# Altium footprint library Footprints.PcbLib: 146 footprints (part 8 of 10)
Each footprint in its own frame and in the unit in brackets; x right, y up, seen from the top. Pads: shape width x height; smd on the part's side, far side on the other; paste and mask are expansions set on the pad; w line width, h text height; cw(c..) or ccw(c..) is an arc to the next point about the centre after c.
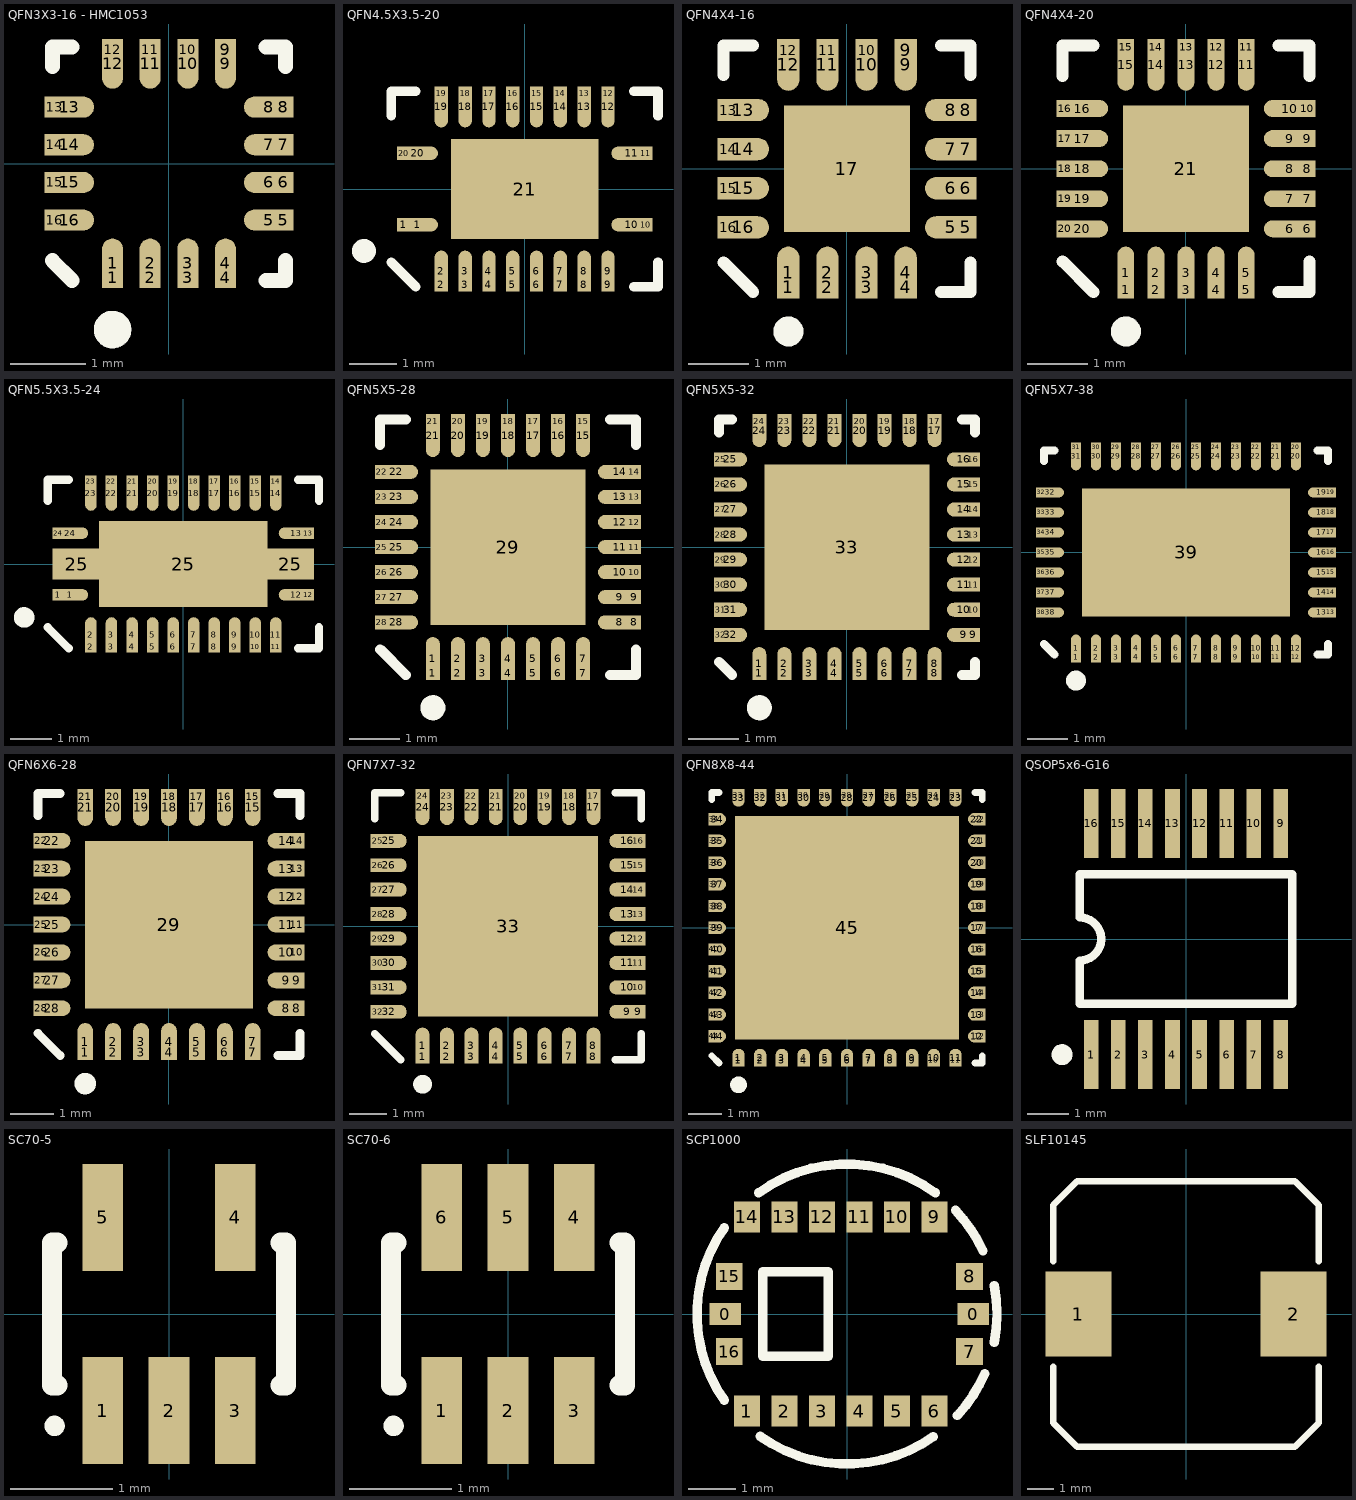
[diagram p7: the footprints below, top view; thin cyan lines are the x and y axes]

## QFN3X3-16 - HMC1053 [mm] "Quad Flat No Lead, Plastic; 16 Terminals; Body 3 x 3 mm; Pitch 0.5 mm"
height 0.8
pads (32):
  rect 0.28x0.28 smd: 1(-0.75,-1.515) 2(-0.25,-1.515) 3(0.25,-1.515) 4(0.75,-1.515) 5(1.515,-0.75) 6(1.515,-0.25) 7(1.515,0.25) 8(1.515,0.75) 9(0.75,1.515) 10(0.25,1.515) 11(-0.25,1.515) 12(-0.75,1.515) 13(-1.515,0.75) 14(-1.515,0.25) 15(-1.515,-0.25) 16(-1.515,-0.75)
  oval 0.28x0.66 smd: 1(-0.75,-1.325) 2(-0.25,-1.325) 3(0.25,-1.325) 4(0.75,-1.325) 9(0.75,1.325) 10(0.25,1.325) 11(-0.25,1.325) 12(-0.75,1.325)
  oval 0.66x0.28 smd: 5(1.325,-0.75) 6(1.325,-0.25) 7(1.325,0.25) 8(1.325,0.75) 13(-1.325,0.75) 14(-1.325,0.25) 15(-1.325,-0.25) 16(-1.325,-0.75)
Top Overlay:
  circle w0.25: c-0.75,-2.205 r0.125
  lines w0.2: -1.55,-1.29 -1.29,-1.55 ; -1.55,1.29 -1.55,1.55 -1.29,1.55 ; 1.29,-1.55 1.55,-1.55 1.55,-1.29 ; 1.29,1.55 1.55,1.55 1.55,1.29

## QFN4.5X3.5-20 [mm] "Quad Flat No Lead; 20 Terminals; Body 4.5 x 3.5 mm; Pitch 0.5 mm"
height 1
pads (41):
  rect 0.28x0.28 smd: 1(-2.54,-0.75) 2(-1.75,-2.015) 3(-1.25,-2.015) 4(-0.75,-2.015) 5(-0.25,-2.015) 6(0.25,-2.015) 7(0.75,-2.015) 8(1.25,-2.015) 9(1.75,-2.015) 10(2.54,-0.75) 11(2.54,0.75) 12(1.75,2.015) 13(1.25,2.015) 14(0.75,2.015) 15(0.25,2.015) 16(-0.25,2.015) 17(-0.75,2.015) 18(-1.25,2.015) 19(-1.75,2.015) 20(-2.54,0.75)
  oval 0.86x0.28 smd: 1(-2.25,-0.75) 10(2.25,-0.75) 11(2.25,0.75) 20(-2.25,0.75)
  oval 0.28x0.86 smd: 2(-1.75,-1.725) 3(-1.25,-1.725) 4(-0.75,-1.725) 5(-0.25,-1.725) 6(0.25,-1.725) 7(0.75,-1.725) 8(1.25,-1.725) 9(1.75,-1.725) 12(1.75,1.725) 13(1.25,1.725) 14(0.75,1.725) 15(0.25,1.725) 16(-0.25,1.725) 17(-0.75,1.725) 18(-1.25,1.725) 19(-1.75,1.725)
  rect 3.1x2.1 smd: 21(0,0)
Top Overlay:
  circle w0.25: c-3.375,-1.3 r0.125
  lines w0.2: -2.8,-1.54 -2.29,-2.05 ; -2.8,1.54 -2.8,2.05 -2.29,2.05 ; 2.29,-2.05 2.8,-2.05 2.8,-1.54 ; 2.29,2.05 2.8,2.05 2.8,1.54

## QFN4X4-16 [mm] "Quad Flat No Lead, Plastic; 16 Terminals; Body 4 x 4 mm; Pitch 0.65 mm"
height 0.8
pads (33):
  rect 0.37x0.37 smd: 1(-0.975,-1.97) 2(-0.325,-1.97) 3(0.325,-1.97) 4(0.975,-1.97) 5(1.97,-0.975) 6(1.97,-0.325) 7(1.97,0.325) 8(1.97,0.975) 9(0.975,1.97) 10(0.325,1.97) 11(-0.325,1.97) 12(-0.975,1.97) 13(-1.97,0.975) 14(-1.97,0.325) 15(-1.97,-0.325) 16(-1.97,-0.975)
  oval 0.37x0.86 smd: 1(-0.975,-1.725) 2(-0.325,-1.725) 3(0.325,-1.725) 4(0.975,-1.725) 9(0.975,1.725) 10(0.325,1.725) 11(-0.325,1.725) 12(-0.975,1.725)
  oval 0.86x0.37 smd: 5(1.725,-0.975) 6(1.725,-0.325) 7(1.725,0.325) 8(1.725,0.975) 13(-1.725,0.975) 14(-1.725,0.325) 15(-1.725,-0.325) 16(-1.725,-0.975)
  rect 2.1x2.1 smd: 17(0,0)
Top Overlay:
  circle w0.25: c-0.975,-2.705 r0.125
  lines w0.2: -2.05,-1.56 -1.56,-2.05 ; -2.05,1.56 -2.05,2.05 -1.56,2.05 ; 1.56,-2.05 2.05,-2.05 2.05,-1.56 ; 1.56,2.05 2.05,2.05 2.05,1.56

## QFN4X4-20 [mm] "Quad Flat No Lead; 20 Terminals; Body 4 x 4 mm; Pitch 0.5 mm"
height 1
pads (41):
  rect 0.28x0.28 smd: 1(-1,-2.015) 2(-0.5,-2.015) 3(0,-2.015) 4(0.5,-2.015) 5(1,-2.015) 6(2.015,-1) 7(2.015,-0.5) 8(2.015,0) 9(2.015,0.5) 10(2.015,1) 11(1,2.015) 12(0.5,2.015) 13(0,2.015) 14(-0.5,2.015) 15(-1,2.015) 16(-2.015,1) 17(-2.015,0.5) 18(-2.015,0) 19(-2.015,-0.5) 20(-2.015,-1)
  oval 0.28x0.86 smd: 1(-1,-1.725) 2(-0.5,-1.725) 3(0,-1.725) 4(0.5,-1.725) 5(1,-1.725) 11(1,1.725) 12(0.5,1.725) 13(0,1.725) 14(-0.5,1.725) 15(-1,1.725)
  oval 0.86x0.28 smd: 6(1.725,-1) 7(1.725,-0.5) 8(1.725,0) 9(1.725,0.5) 10(1.725,1) 16(-1.725,1) 17(-1.725,0.5) 18(-1.725,0) 19(-1.725,-0.5) 20(-1.725,-1)
  rect 2.1x2.1 smd: 21(0,0)
Top Overlay:
  circle w0.25: c-1,-2.705 r0.125
  lines w0.2: -2.05,-1.54 -1.54,-2.05 ; -2.05,1.54 -2.05,2.05 -1.54,2.05 ; 1.54,-2.05 2.05,-2.05 2.05,-1.54 ; 1.54,2.05 2.05,2.05 2.05,1.54

## QFN5.5X3.5-24 [mm] "Quad Flat No Lead; 24 Terminals; Body 5.5 x 3.5 mm; Pitch 0.5 mm"
height 1
pads (51):
  rect 0.28x0.28 smd: 1(-3.04,-0.75) 2(-2.25,-2.015) 3(-1.75,-2.015) 4(-1.25,-2.015) 5(-0.75,-2.015) 6(-0.25,-2.015) 7(0.25,-2.015) 8(0.75,-2.015) 9(1.25,-2.015) 10(1.75,-2.015) 11(2.25,-2.015) 12(3.04,-0.75) 13(3.04,0.75) 14(2.25,2.015) 15(1.75,2.015) 16(1.25,2.015) 17(0.75,2.015) 18(0.25,2.015) 19(-0.25,2.015) 20(-0.75,2.015) 21(-1.25,2.015) 22(-1.75,2.015) 23(-2.25,2.015) 24(-3.04,0.75)
  oval 0.86x0.28 smd: 1(-2.75,-0.75) 12(2.75,-0.75) 13(2.75,0.75) 24(-2.75,0.75)
  oval 0.28x0.86 smd: 2(-2.25,-1.725) 3(-1.75,-1.725) 4(-1.25,-1.725) 5(-0.75,-1.725) 6(-0.25,-1.725) 7(0.25,-1.725) 8(0.75,-1.725) 9(1.25,-1.725) 10(1.75,-1.725) 11(2.25,-1.725) 14(2.25,1.725) 15(1.75,1.725) 16(1.25,1.725) 17(0.75,1.725) 18(0.25,1.725) 19(-0.25,1.725) 20(-0.75,1.725) 21(-1.25,1.725) 22(-1.75,1.725) 23(-2.25,1.725)
  rect 1.16x0.75 smd: 25(-2.6,0) 25(2.6,0)
  rect 4.1x2.1 smd: 25(0,0)
Top Overlay:
  circle w0.25: c-3.875,-1.3 r0.125
  lines w0.2: -3.3,-1.54 -2.79,-2.05 ; -3.3,1.54 -3.3,2.05 -2.79,2.05 ; 2.79,-2.05 3.3,-2.05 3.3,-1.54 ; 2.79,2.05 3.3,2.05 3.3,1.54

## QFN5X5-28 [mm] "Quad Flat No Lead, Plastic; 28 Terminals; Body 5 x 5 mm; Pitch 0.5 mm"
height 1
pads (57):
  rect 0.28x0.28 smd: 1(-1.5,-2.515) 2(-1,-2.515) 3(-0.5,-2.515) 4(0,-2.515) 5(0.5,-2.515) 6(1,-2.515) 7(1.5,-2.515) 8(2.515,-1.5) 9(2.515,-1) 10(2.515,-0.5) 11(2.515,0) 12(2.515,0.5) 13(2.515,1) 14(2.515,1.5) 15(1.5,2.515) 16(1,2.515) 17(0.5,2.515) 18(0,2.515) 19(-0.5,2.515) 20(-1,2.515) 21(-1.5,2.515) 22(-2.515,1.5) 23(-2.515,1) 24(-2.515,0.5) 25(-2.515,0) 26(-2.515,-0.5) 27(-2.515,-1) 28(-2.515,-1.5)
  oval 0.28x0.86 smd: 1(-1.5,-2.225) 2(-1,-2.225) 3(-0.5,-2.225) 4(0,-2.225) 5(0.5,-2.225) 6(1,-2.225) 7(1.5,-2.225) 15(1.5,2.225) 16(1,2.225) 17(0.5,2.225) 18(0,2.225) 19(-0.5,2.225) 20(-1,2.225) 21(-1.5,2.225)
  oval 0.86x0.28 smd: 8(2.225,-1.5) 9(2.225,-1) 10(2.225,-0.5) 11(2.225,0) 12(2.225,0.5) 13(2.225,1) 14(2.225,1.5) 22(-2.225,1.5) 23(-2.225,1) 24(-2.225,0.5) 25(-2.225,0) 26(-2.225,-0.5) 27(-2.225,-1) 28(-2.225,-1.5)
  rect 3.1x3.1 smd: 29(0,0)
Top Overlay:
  circle w0.25: c-1.5,-3.205 r0.125
  lines w0.2: -2.55,-2.04 -2.04,-2.55 ; -2.55,2.04 -2.55,2.55 -2.04,2.55 ; 2.04,-2.55 2.55,-2.55 2.55,-2.04 ; 2.04,2.55 2.55,2.55 2.55,2.04

## QFN5X5-32 [mm] "Quad Flat No Lead; 32 Terminals; Body 5 x 5 mm; Pitch 0.5 mm"
height 1
pads (65):
  rect 0.28x0.28 smd: 1(-1.75,-2.515) 2(-1.25,-2.515) 3(-0.75,-2.515) 4(-0.25,-2.515) 5(0.25,-2.515) 6(0.75,-2.515) 7(1.25,-2.515) 8(1.75,-2.515) 9(2.515,-1.75) 10(2.515,-1.25) 11(2.515,-0.75) 12(2.515,-0.25) 13(2.515,0.25) 14(2.515,0.75) 15(2.515,1.25) 16(2.515,1.75) 17(1.75,2.515) 18(1.25,2.515) 19(0.75,2.515) 20(0.25,2.515) 21(-0.25,2.515) 22(-0.75,2.515) 23(-1.25,2.515) 24(-1.75,2.515) 25(-2.515,1.75) 26(-2.515,1.25) 27(-2.515,0.75) 28(-2.515,0.25) 29(-2.515,-0.25) 30(-2.515,-0.75) 31(-2.515,-1.25) 32(-2.515,-1.75)
  oval 0.28x0.66 smd: 1(-1.75,-2.325) 2(-1.25,-2.325) 3(-0.75,-2.325) 4(-0.25,-2.325) 5(0.25,-2.325) 6(0.75,-2.325) 7(1.25,-2.325) 8(1.75,-2.325) 17(1.75,2.325) 18(1.25,2.325) 19(0.75,2.325) 20(0.25,2.325) 21(-0.25,2.325) 22(-0.75,2.325) 23(-1.25,2.325) 24(-1.75,2.325)
  oval 0.66x0.28 smd: 9(2.325,-1.75) 10(2.325,-1.25) 11(2.325,-0.75) 12(2.325,-0.25) 13(2.325,0.25) 14(2.325,0.75) 15(2.325,1.25) 16(2.325,1.75) 25(-2.325,1.75) 26(-2.325,1.25) 27(-2.325,0.75) 28(-2.325,0.25) 29(-2.325,-0.25) 30(-2.325,-0.75) 31(-2.325,-1.25) 32(-2.325,-1.75)
  rect 3.3x3.3 smd: 33(0,0)
Top Overlay:
  circle w0.25: c-1.75,-3.205 r0.125
  lines w0.2: -2.55,-2.29 -2.29,-2.55 ; -2.55,2.29 -2.55,2.55 -2.29,2.55 ; 2.29,-2.55 2.55,-2.55 2.55,-2.29 ; 2.29,2.55 2.55,2.55 2.55,2.29

## QFN5X7-38 [mm] "Quad Flat No Lead; 38 Terminals; Body 5 x 7 mm; Pitch 0.5 mm"
height 1
pads (77):
  rect 0.25x0.25 smd: 1(-2.75,-2.625) 2(-2.25,-2.625) 3(-1.75,-2.625) 4(-1.25,-2.625) 5(-0.75,-2.625) 6(-0.25,-2.625) 7(0.25,-2.625) 8(0.75,-2.625) 9(1.25,-2.625) 10(1.75,-2.625) 11(2.25,-2.625) 12(2.75,-2.625) 13(3.625,-1.5) 14(3.625,-1) 15(3.625,-0.5) 16(3.625,0) 17(3.625,0.5) 18(3.625,1) 19(3.625,1.5) 20(2.75,2.625) 21(2.25,2.625) 22(1.75,2.625) 23(1.25,2.625) 24(0.75,2.625) 25(0.25,2.625) 26(-0.25,2.625) 27(-0.75,2.625) 28(-1.25,2.625) 29(-1.75,2.625) 30(-2.25,2.625) 31(-2.75,2.625) 32(-3.625,1.5) 33(-3.625,1) 34(-3.625,0.5) 35(-3.625,0) 36(-3.625,-0.5) 37(-3.625,-1) 38(-3.625,-1.5)
  oval 0.25x0.7 smd: 1(-2.75,-2.4) 2(-2.25,-2.4) 3(-1.75,-2.4) 4(-1.25,-2.4) 5(-0.75,-2.4) 6(-0.25,-2.4) 7(0.25,-2.4) 8(0.75,-2.4) 9(1.25,-2.4) 10(1.75,-2.4) 11(2.25,-2.4) 12(2.75,-2.4) 20(2.75,2.4) 21(2.25,2.4) 22(1.75,2.4) 23(1.25,2.4) 24(0.75,2.4) 25(0.25,2.4) 26(-0.25,2.4) 27(-0.75,2.4) 28(-1.25,2.4) 29(-1.75,2.4) 30(-2.25,2.4) 31(-2.75,2.4)
  oval 0.7x0.25 smd: 13(3.4,-1.5) 14(3.4,-1) 15(3.4,-0.5) 16(3.4,0) 17(3.4,0.5) 18(3.4,1) 19(3.4,1.5) 32(-3.4,1.5) 33(-3.4,1) 34(-3.4,0.5) 35(-3.4,0) 36(-3.4,-0.5) 37(-3.4,-1) 38(-3.4,-1.5)
  rect 5.2x3.2 smd: 39(0,0)
Top Overlay:
  circle w0.25: c-2.75,-3.205 r0.125
  lines w0.2: -3.55,-2.29 -3.29,-2.55 ; -3.55,2.29 -3.55,2.55 -3.29,2.55 ; 3.29,-2.55 3.55,-2.55 3.55,-2.29 ; 3.29,2.55 3.55,2.55 3.55,2.29

## QFN6X6-28 [mm] "Quad Flat No Lead, Plastic, Punch; 28 Terminals; Body 6 x 6 mm; Pitch 0.65 mm"
height 1
pads (57):
  rect 0.37x0.37 smd: 1(-1.95,-2.97) 2(-1.3,-2.97) 3(-0.65,-2.97) 4(0,-2.97) 5(0.65,-2.97) 6(1.3,-2.97) 7(1.95,-2.97) 8(2.97,-1.95) 9(2.97,-1.3) 10(2.97,-0.65) 11(2.97,0) 12(2.97,0.65) 13(2.97,1.3) 14(2.97,1.95) 15(1.95,2.97) 16(1.3,2.97) 17(0.65,2.97) 18(0,2.97) 19(-0.65,2.97) 20(-1.3,2.97) 21(-1.95,2.97) 22(-2.97,1.95) 23(-2.97,1.3) 24(-2.97,0.65) 25(-2.97,0) 26(-2.97,-0.65) 27(-2.97,-1.3) 28(-2.97,-1.95)
  oval 0.37x0.86 smd: 1(-1.95,-2.725) 2(-1.3,-2.725) 3(-0.65,-2.725) 4(0,-2.725) 5(0.65,-2.725) 6(1.3,-2.725) 7(1.95,-2.725) 15(1.95,2.725) 16(1.3,2.725) 17(0.65,2.725) 18(0,2.725) 19(-0.65,2.725) 20(-1.3,2.725) 21(-1.95,2.725)
  oval 0.86x0.37 smd: 8(2.725,-1.95) 9(2.725,-1.3) 10(2.725,-0.65) 11(2.725,0) 12(2.725,0.65) 13(2.725,1.3) 14(2.725,1.95) 22(-2.725,1.95) 23(-2.725,1.3) 24(-2.725,0.65) 25(-2.725,0) 26(-2.725,-0.65) 27(-2.725,-1.3) 28(-2.725,-1.95)
  rect 3.9x3.9 smd: 29(0,0)
Top Overlay:
  circle w0.25: c-1.95,-3.705 r0.125
  lines w0.2: -3.05,-2.535 -2.535,-3.05 ; -3.05,2.535 -3.05,3.05 -2.535,3.05 ; 2.535,-3.05 3.05,-3.05 3.05,-2.535 ; 2.535,3.05 3.05,3.05 3.05,2.535

## QFN7X7-32 [mm] "Quad Flat No Lead, Plastic; 32 Terminals; Body 7 x 7 mm; Pitch 0.65 mm"
height 1
pads (65):
  rect 0.37x0.37 smd: 1(-2.275,-3.47) 2(-1.625,-3.47) 3(-0.975,-3.47) 4(-0.325,-3.47) 5(0.325,-3.47) 6(0.975,-3.47) 7(1.625,-3.47) 8(2.275,-3.47) 9(3.47,-2.275) 10(3.47,-1.625) 11(3.47,-0.975) 12(3.47,-0.325) 13(3.47,0.325) 14(3.47,0.975) 15(3.47,1.625) 16(3.47,2.275) 17(2.275,3.47) 18(1.625,3.47) 19(0.975,3.47) 20(0.325,3.47) 21(-0.325,3.47) 22(-0.975,3.47) 23(-1.625,3.47) 24(-2.275,3.47) 25(-3.47,2.275) 26(-3.47,1.625) 27(-3.47,0.975) 28(-3.47,0.325) 29(-3.47,-0.325) 30(-3.47,-0.975) 31(-3.47,-1.625) 32(-3.47,-2.275)
  oval 0.37x0.96 smd: 1(-2.275,-3.175) 2(-1.625,-3.175) 3(-0.975,-3.175) 4(-0.325,-3.175) 5(0.325,-3.175) 6(0.975,-3.175) 7(1.625,-3.175) 8(2.275,-3.175) 17(2.275,3.175) 18(1.625,3.175) 19(0.975,3.175) 20(0.325,3.175) 21(-0.325,3.175) 22(-0.975,3.175) 23(-1.625,3.175) 24(-2.275,3.175)
  oval 0.96x0.37 smd: 9(3.175,-2.275) 10(3.175,-1.625) 11(3.175,-0.975) 12(3.175,-0.325) 13(3.175,0.325) 14(3.175,0.975) 15(3.175,1.625) 16(3.175,2.275) 25(-3.175,2.275) 26(-3.175,1.625) 27(-3.175,0.975) 28(-3.175,0.325) 29(-3.175,-0.325) 30(-3.175,-0.975) 31(-3.175,-1.625) 32(-3.175,-2.275)
  rect 4.8x4.8 smd: 33(0,0)
Top Overlay:
  circle w0.25: c-2.275,-4.205 r0.125
  lines w0.2: -3.55,-2.86 -2.86,-3.55 ; -3.55,2.86 -3.55,3.55 -2.86,3.55 ; 2.86,-3.55 3.55,-3.55 3.55,-2.86 ; 2.86,3.55 3.55,3.55 3.55,2.86

## QFN8X8-44 [mm] "Quad Flat No Lead, Plastic; 44 Terminals; Body 8 x 8 mm; Pitch 0.65 mm"
height 1
pads (89):
  rect 0.37x0.37 smd: 1(-3.25,-3.97) 2(-2.6,-3.97) 3(-1.95,-3.97) 4(-1.3,-3.97) 5(-0.65,-3.97) 6(0,-3.97) 7(0.65,-3.97) 8(1.3,-3.97) 9(1.95,-3.97) 10(2.6,-3.97) 11(3.25,-3.97) 12(3.97,-3.25) 13(3.97,-2.6) 14(3.97,-1.95) 15(3.97,-1.3) 16(3.97,-0.65) 17(3.97,0) 18(3.97,0.65) 19(3.97,1.3) 20(3.97,1.95) 21(3.97,2.6) 22(3.97,3.25) 23(3.25,3.97) 24(2.6,3.97) 25(1.95,3.97) 26(1.3,3.97) 27(0.65,3.97) 28(0,3.97) 29(-0.65,3.97) 30(-1.3,3.97) 31(-1.95,3.97) 32(-2.6,3.97) 33(-3.25,3.97) 34(-3.97,3.25) 35(-3.97,2.6) 36(-3.97,1.95) 37(-3.97,1.3) 38(-3.97,0.65) 39(-3.97,0) 40(-3.97,-0.65) 41(-3.97,-1.3) 42(-3.97,-1.95) 43(-3.97,-2.6) 44(-3.97,-3.25)
  oval 0.37x0.53 smd: 1(-3.25,-3.89) 2(-2.6,-3.89) 3(-1.95,-3.89) 4(-1.3,-3.89) 5(-0.65,-3.89) 6(0,-3.89) 7(0.65,-3.89) 8(1.3,-3.89) 9(1.95,-3.89) 10(2.6,-3.89) 11(3.25,-3.89) 23(3.25,3.89) 24(2.6,3.89) 25(1.95,3.89) 26(1.3,3.89) 27(0.65,3.89) 28(0,3.89) 29(-0.65,3.89) 30(-1.3,3.89) 31(-1.95,3.89) 32(-2.6,3.89) 33(-3.25,3.89)
  oval 0.53x0.37 smd: 12(3.89,-3.25) 13(3.89,-2.6) 14(3.89,-1.95) 15(3.89,-1.3) 16(3.89,-0.65) 17(3.89,0) 18(3.89,0.65) 19(3.89,1.3) 20(3.89,1.95) 21(3.89,2.6) 22(3.89,3.25) 34(-3.89,3.25) 35(-3.89,2.6) 36(-3.89,1.95) 37(-3.89,1.3) 38(-3.89,0.65) 39(-3.89,0) 40(-3.89,-0.65) 41(-3.89,-1.3) 42(-3.89,-1.95) 43(-3.89,-2.6) 44(-3.89,-3.25)
  rect 6.7x6.7 smd: 45(0,0)
Top Overlay:
  circle w0.25: c-3.25,-4.705 r0.125
  lines w0.2: -4.05,-3.835 -3.835,-4.05 ; -4.05,3.835 -4.05,4.05 -3.835,4.05 ; 3.835,-4.05 4.05,-4.05 4.05,-3.835 ; 3.835,4.05 4.05,4.05 4.05,3.835

## QSOP5x6-G16 [mm] "Shrink Small Outline; 16 Leads; Body Width 4.4 mm; Pitch 0.65 mm"
height 1.1
pads (16):
  rect 0.35x1.65 smd: 1(-2.275,-2.775) 2(-1.625,-2.775) 3(-0.975,-2.775) 4(-0.325,-2.775) 5(0.325,-2.775) 6(0.975,-2.775) 7(1.625,-2.775) 8(2.275,-2.775) 9(2.275,2.775) 10(1.625,2.775) 11(0.975,2.775) 12(0.325,2.775) 13(-0.325,2.775) 14(-0.975,2.775) 15(-1.625,2.775) 16(-2.275,2.775)
Top Overlay:
  circle w0.25: c-2.975,-2.775 r0.125
  lines w0.2: -2.55,-1.55 -2.55,-0.517 ccw(c-2.55,0) -2.55,0.517 -2.55,1.55 2.55,1.55 2.55,-1.55 -2.55,-1.55

## SC70-5 [mm] "SC-70; 5 Leads"
height 1.1
pads (5):
  rect 0.4x1.05 smd: 1(-0.65,-0.95) 2(0,-0.95) 3(0.65,-0.95) 4(0.65,0.95) 5(-0.65,0.95)
Top Overlay:
  circle w0.1: c-1.125,-1.1 r0.05
  lines w0.2: -1.1,-0.7 -1.15,-0.7 -1.15,0.7 -1.1,0.7 ; 1.1,-0.7 1.15,-0.7 1.15,0.7 1.1,0.7

## SC70-6 [mm] "SC-70; 6 Leads"
height 1.1
pads (6):
  rect 0.4x1.05 smd: 1(-0.65,-0.95) 2(0,-0.95) 3(0.65,-0.95) 4(0.65,0.95) 5(0,0.95) 6(-0.65,0.95)
Top Overlay:
  circle w0.1: c-1.125,-1.1 r0.05
  lines w0.2: -1.1,-0.7 -1.15,-0.7 -1.15,0.7 -1.1,0.7 ; 1.1,-0.7 1.15,-0.7 1.15,0.7 1.1,0.7

## SCP1000 [mm] "Pressure Sensor"
height 2
pads (18):
  rect 0.67x0.47 smd: 0(-2.595,0) 0(2.695,0)
  rect 0.55x0.67 smd: 1(-2.135,-2.07) 2(-1.335,-2.07) 3(-0.535,-2.07) 4(0.265,-2.07) 5(1.065,-2.07) 6(1.865,-2.07) 9(1.865,2.07) 10(1.065,2.07) 11(0.265,2.07) 12(-0.535,2.07) 13(-1.335,2.07) 14(-2.135,2.07)
  rect 0.57x0.57 smd: 7(2.615,-0.8) 8(2.615,0.8) 15(-2.515,0.8) 16(-2.515,-0.8)
Top Overlay:
  lines w0.2: -2.617,-1.842 cw(c0,0) -2.617,1.842 ; -1.888,2.584 cw(c0,0) 1.888,2.584 ; -1.85,-2.611 ccw(c0,0) 1.842,-2.617 ; 2.315,2.21 cw(c0,0) 2.902,1.348 ; 2.355,-2.167 ccw(c0,0) 2.936,-1.272 ; 3.142,-0.608 ccw(c0,0) 3.142,0.608 ; -1.8,-0.9 -1.8,0.9 -0.4,0.9 -0.4,-0.9 -1.8,-0.9

## SLF10145 [mm] "Coil footprint"
pads (2):
  rect 2.5x3.2 smd: 1(-4.05,0) 2(4.05,0)
Top Overlay:
  lines w0.254: -5,-2 -5,-4.1 -4.1,-5 4.1,-5 5,-4.1 5,-2 ; -5,2 -5,4.1 -4.1,5 4.1,5 5,4.1 5,2